# Altium schematic symbol library Supernova Resistors.SchLib: 277 symbols (part 3 of 3)
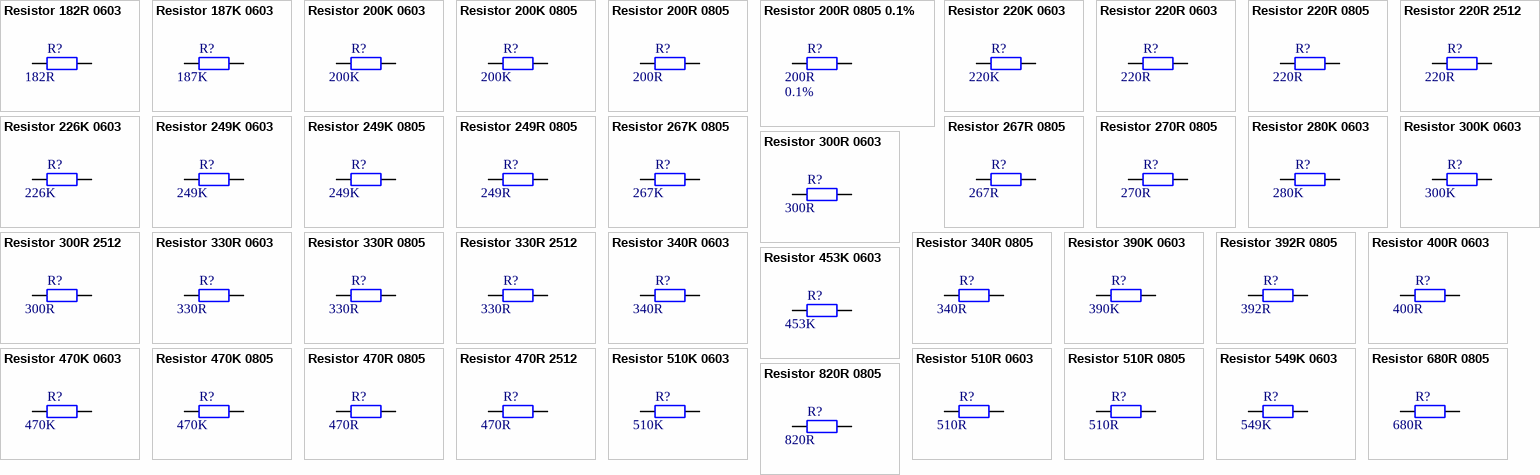
[diagram p9: symbols Resistor 182R 0603 to Resistor 820R 0805]

## Resistor 187K 0603
designator R?, comment 187K
Resistor 187K 0603 0.1W 1%; Revision: Altium ETH 11-03.2008; Value: 187K; Supplier 1: Digi-Key; Supplier 2: Digi-Key; Supplier Part Number 1: 311-187KHRCT-ND; Supplier Part Number 2: P187KHCT-ND
footprint 0603 RES (Chip Resistor, 2-Leads, Body 1.60x0.85mm, IPC Medium Density)
simulation model Resistor
pins: 1, 2
1 alternate drawing of the same symbol

## Resistor 200K 0603
designator R?, comment 200K
Resistor 200K 0603 0.1W 1%; Revision: Altium ETH 11-03.2008; Value: 200K; Supplier 1: Digi-Key; Supplier Part Number 1: P200KHCT-ND; Supplier 2: Digi-Key; Supplier Part Number 2: 311-200KHRCT-ND; Supplier 3: Digi-Key; Supplier Part Number 3: RMCF0603FT200KCT-ND
footprint 0603 RES (Chip Resistor, 2-Leads, Body 1.60x0.85mm, IPC Medium Density)
simulation model Resistor
pins: 1, 2
1 alternate drawing of the same symbol

## Resistor 200K 0805
designator R?, comment 200K
Resistor 200K 0805 0.125W 1%; Revision: Altium ETH 11-03.2008; Value: 200K; Supplier 1: Digi-Key; Supplier Part Number 1: P200KCCT-ND; Supplier 2: Digi-Key; Supplier Part Number 2: 311-200KCRCT-ND
footprint 0805 RES (Chip Resistor, 2-Leads, Body 2.05x1.25mm, IPC Medium Density)
simulation model Resistor
pins: 1, 2
1 alternate drawing of the same symbol

## Resistor 200R 0805
designator R?, comment 200R
Resistor 200R 0805 0.125W 1%; Revision: Altium ETH 11-03.2008; Value: 200R; Supplier 1: Digi-Key; Supplier Part Number 1: 311-200CRCT-ND; Supplier 2: Digi-Key; Supplier Part Number 2: P200CCT-ND
footprint 0805 RES (Chip Resistor, 2-Leads, Body 2.05x1.25mm, IPC Medium Density)
simulation model Resistor
pins: 1, 2
1 alternate drawing of the same symbol

## Resistor 200R 0805 0.1%
designator R?, comment 200R  Tolerance: 0.1%
Resistor 200R 0805 0.125W 0.1%; Revision: Altium ETH 11-03.2008; Value: 200R; Supplier 1: Digi-Key; Supplier 2: Digi-Key; Supplier Part Number 1: TNP200ABCT-ND; Supplier Part Number 2: A110476CT-ND
footprint 0805 RES (Chip Resistor, 2-Leads, Body 2.05x1.25mm, IPC Medium Density)
simulation model Resistor
pins: 1, 2
1 alternate drawing of the same symbol

## Resistor 220K 0603
designator R?, comment 220K
Resistor 220K 0603 0.1W 1%; Revision: Altium ETH 11-03.2008; Value: 220K; Supplier 1: Digi-Key; Supplier Part Number 1: 311-220KHRCT-ND; Supplier 2: Digi-Key; Supplier Part Number 2: P220KHCT-ND
footprint 0603 RES (Chip Resistor, 2-Leads, Body 1.60x0.85mm, IPC Medium Density)
simulation model Resistor
pins: 1, 2
1 alternate drawing of the same symbol

## Resistor 220R 0603
designator R?, comment 220R
Resistor 220R 0603 0.1W 1%; Revision: Altium ETH 11-03.2008; Value: 220R; Supplier 1: Digi-Key; Supplier Part Number 1: P220HCT-ND; Supplier 2: Digi-Key; Supplier Part Number 2: YAG3580CT-ND; Supplier 3: Digi-Key; Supplier Part Number 3: A129680CT-ND
footprint 0603 RES (Chip Resistor, 2-Leads, Body 1.60x0.85mm, IPC Medium Density)
simulation model Resistor
pins: 1, 2
1 alternate drawing of the same symbol

## Resistor 220R 0805
designator R?, comment 220R
Resistor 220R 0805 0.125W 1%; Revision: Altium ETH 11-03.2008; Value: 220R; Supplier 1: Digi-Key; Supplier Part Number 1: P220CCT-ND; Supplier 2: Digi-Key; Supplier Part Number 2: 311-220CRCT-ND; Supplier 3: Digi-Key; Supplier Part Number 3: A129741CT-ND; Supplier 4: Digi-Key; Supplier Part Number 4: RMCF0805FT220RCT-ND
footprint 0805 RES (Chip Resistor, 2-Leads, Body 2.05x1.25mm, IPC Medium Density)
simulation model Resistor
pins: 1, 2
1 alternate drawing of the same symbol

## Resistor 220R 2512
designator R?, comment 220R
Resistor 220R 2512 2W 1%; Revision: Altium ETH 11-03.2008; Value: 220R; Supplier 1: Digi-Key; Supplier 2: Digi-Key; Supplier Part Number 1: A130713CT-ND; Supplier Part Number 2: RHC2512FT220RCT-ND
footprint 2512 RES - TE
simulation model Resistor
pins: 1, 2
1 alternate drawing of the same symbol

## Resistor 226K 0603
designator R?, comment 226K
Resistor 226K 0603 0.1W 1%; Revision: Altium ETH 11-03.2008; Value: 226K; Supplier 1: Digi-Key; Supplier Part Number 1: P226KHCT-ND; Supplier 2: Digi-Key; Supplier Part Number 2: 2019-RK73H1JTTD2263FCT-ND
footprint 0603 RES (Chip Resistor, 2-Leads, Body 1.60x0.85mm, IPC Medium Density)
simulation model Resistor
pins: 1, 2
1 alternate drawing of the same symbol

## Resistor 249K 0603
designator R?, comment 249K
Resistor 249K 0603 0.1W 1%; Revision: Altium ETH 11-03.2008; Value: 249K; Supplier 1: Digi-Key; Supplier 2: Digi-Key; Supplier Part Number 1: 311-249KHRCT-ND; Supplier Part Number 2: P249KDBCT-ND
footprint 0603 RES (Chip Resistor, 2-Leads, Body 1.60x0.85mm, IPC Medium Density)
simulation model Resistor
pins: 1, 2
1 alternate drawing of the same symbol

## Resistor 249K 0805
designator R?, comment 249K
Resistor 249K 0805 0.125W 0.1%; Revision: Altium ETH 11-03.2008; Value: 249K; Supplier 1: Digi-Key; Supplier Part Number 1: P249KDACT-ND; Supplier 2: Digi-Key; Supplier Part Number 2: P20865CT-ND
footprint 0805 RES (Chip Resistor, 2-Leads, Body 2.05x1.25mm, IPC Medium Density)
simulation model Resistor
pins: 1, 2
1 alternate drawing of the same symbol

## Resistor 249R 0805
designator R?, comment 249R
Resistor 249R 0805 0.125W 0.1%; Revision: Altium ETH 11-03.2008; Value: 249R; Supplier 1: Digi-Key; Supplier 2: Digi-Key; Supplier Part Number 1: P249DACT-ND; Supplier Part Number 2: RG20P249BCT-ND
footprint 0805 RES (Chip Resistor, 2-Leads, Body 2.05x1.25mm, IPC Medium Density)
simulation model Resistor
pins: 1, 2
1 alternate drawing of the same symbol

## Resistor 267K 0805
designator R?, comment 267K
Resistor 267K 0805 0.125W 1%; Revision: Altium ETH 11-03.2008; Value: 267K; Supplier 1: Digi-Key; Supplier 2: Digi-Key; Supplier Part Number 1: 311-267KCRCT-ND; Supplier Part Number 2: P267KCCT-ND
footprint 0805 RES (Chip Resistor, 2-Leads, Body 2.05x1.25mm, IPC Medium Density)
simulation model Resistor
pins: 1, 2
1 alternate drawing of the same symbol

## Resistor 267R 0805
designator R?, comment 267R
Resistor 267R 0805 0.125W 1%; Revision: Altium ETH 11-03.2008; Value: 267R; Supplier 1: Digi-Key; Supplier 2: Digi-Key; Supplier Part Number 1: 311-267CRCT-ND; Supplier Part Number 2: P267DBCT-ND
footprint 0805 RES (Chip Resistor, 2-Leads, Body 2.05x1.25mm, IPC Medium Density)
simulation model Resistor
pins: 1, 2
1 alternate drawing of the same symbol

## Resistor 270R 0805
designator R?, comment 270R
Resistor 270R 0805 0.125W 1%; Revision: Altium ETH 11-03.2008; Value: 270R; Supplier 1: Digi-Key; Supplier Part Number 1: 311-270CRCT-ND; Supplier 2: Digi-Key; Supplier Part Number 2: P270CCT-ND
footprint 0805 RES (Chip Resistor, 2-Leads, Body 2.05x1.25mm, IPC Medium Density)
simulation model Resistor
pins: 1, 2
1 alternate drawing of the same symbol

## Resistor 280K 0603
designator R?, comment 280K
Resistor 280K 0603 0.1W 1%; Revision: Altium ETH 11-03.2008; Value: 280K; Supplier 1: Digi-Key; Supplier 2: Digi-Key; Supplier Part Number 1: P280KHCT-ND; Supplier Part Number 2: 311-280KHRCT-ND
footprint 0603 RES (Chip Resistor, 2-Leads, Body 1.60x0.85mm, IPC Medium Density)
simulation model Resistor
pins: 1, 2
1 alternate drawing of the same symbol

## Resistor 300K 0603
designator R?, comment 300K
Resistor 300K 0603 0.1W 1%; Revision: Altium ETH 11-03.2008; Value: 300K; Supplier 1: Digi-Key; Supplier 2: Digi-Key; Supplier Part Number 1: 311-300KHRCT-ND; Supplier Part Number 2: P300KHCT-ND
footprint 0603 RES (Chip Resistor, 2-Leads, Body 1.60x0.85mm, IPC Medium Density)
simulation model Resistor
pins: 1, 2
1 alternate drawing of the same symbol

## Resistor 300R 0603
designator R?, comment 300R
Resistor 300R 0603 0.1W 1%; Revision: Altium ETH 11-03.2008; Value: 300R; Supplier 1: Digi-Key; Supplier Part Number 1: 311-300HRCT-ND; Supplier 2: Digi-Key; Supplier Part Number 2: P300HCT-ND
footprint 0603 RES (Chip Resistor, 2-Leads, Body 1.60x0.85mm, IPC Medium Density)
simulation model Resistor
pins: 1, 2
1 alternate drawing of the same symbol

## Resistor 300R 2512
designator R?, comment 300R
Resistor 300R 2512 3W 1%; Revision: Altium ETH 11-03.2008; Value: 300R; Supplier 1: Digi-Key; Supplier Part Number 1: A121216CT-ND; Supplier 2: Digi-Key; Supplier Part Number 2: A116019CT-ND
footprint 2512 RES - TE
simulation model Resistor
pins: 1, 2
1 alternate drawing of the same symbol

## Resistor 330R 0603
designator R?, comment 330R
Resistor 330R 0603 0.1W 1%; Revision: Altium ETH 11-03.2008; Value: 330R; Supplier 1: Digi-Key; Supplier Part Number 1: P330HDKR-ND; Supplier 2: Digi-Key; Supplier Part Number 2: 311-330HRCT-ND
footprint 0603 RES (Chip Resistor, 2-Leads, Body 1.60x0.85mm, IPC Medium Density)
simulation model Resistor
pins: 1, 2
1 alternate drawing of the same symbol

## Resistor 330R 0805
designator R?, comment 330R
Resistor 330R 0805 0.125W 1%; Revision: Altium ETH 11-03.2008; Value: 330R; Supplier 1: Digi-Key; Supplier Part Number 1: P330CCT-ND; Supplier 2: Digi-Key; Supplier Part Number 2: 311-330CRCT-ND
footprint 0805 RES (Chip Resistor, 2-Leads, Body 2.05x1.25mm, IPC Medium Density)
simulation model Resistor
pins: 1, 2
1 alternate drawing of the same symbol

## Resistor 330R 2512
designator R?, comment 330R
Resistor 330R 2512 2W 1%; Revision: Altium ETH 11-03.2008; Value: 330R; Supplier 1: Digi-Key; Supplier 2: Digi-Key; Supplier Part Number 1: A116020CT-ND; Supplier Part Number 2: RHC2512FT330RCT-ND
footprint 2512 RES - TE
simulation model Resistor
pins: 1, 2
1 alternate drawing of the same symbol

## Resistor 340R 0603
designator R?, comment 340R
Resistor 340R 0603 0.1W 1%; Revision: Altium ETH 11-03.2008; Value: 340R; Supplier 1: Digi-Key; Supplier Part Number 1: P340HDKR-ND; Supplier 2: Digi-Key; Supplier Part Number 2: 311-340HRCT-ND
footprint 0603 RES (Chip Resistor, 2-Leads, Body 1.60x0.85mm, IPC Medium Density)
simulation model Resistor
pins: 1, 2
1 alternate drawing of the same symbol

## Resistor 340R 0805
designator R?, comment 340R
Resistor 340R 0805 0.125W 1%; Revision: Altium ETH 11-03.2008; Value: 340R; Supplier 1: Digi-Key; Supplier Part Number 1: P340CCT-ND; Supplier 2: Digi-Key; Supplier Part Number 2: 311-340CRCT-ND
footprint 0805 RES (Chip Resistor, 2-Leads, Body 2.05x1.25mm, IPC Medium Density)
simulation model Resistor
pins: 1, 2
1 alternate drawing of the same symbol

## Resistor 390K 0603
designator R?, comment 390K
Resistor 390K 0603 0.063W 0.1%; Revision: Altium ETH 11-03.2008; Value: 390K; Supplier 1: Digi-Key; Supplier Part Number 1: YAG4542CT-ND; Supplier 2: Digi-Key; Supplier Part Number 2: A119962CT-ND
footprint 0603 RES (Chip Resistor, 2-Leads, Body 1.60x0.85mm, IPC Medium Density)
simulation model Resistor
pins: 1, 2
1 alternate drawing of the same symbol

## Resistor 392R 0805
designator R?, comment 392R
Resistor 392R 0805 0.125W 0.1%; Revision: Altium ETH 11-03.2008; Value: 392R; Supplier 1: Digi-Key; Supplier 2: Digi-Key; Supplier Part Number 1: YAG4889CT-ND; Supplier Part Number 2: P20547CT-ND
footprint 0805 RES (Chip Resistor, 2-Leads, Body 2.05x1.25mm, IPC Medium Density)
simulation model Resistor
pins: 1, 2
1 alternate drawing of the same symbol

## Resistor 400R 0603
designator R?, comment 400R
Resistor 400R 0603 0.01W 0.1%; Revision: Altium ETH 11-03.2008; Value: 400R; Supplier 1: Digi-Key; Supplier Part Number 1: 764-M55342E12B400ARWSTR-ND
footprint 0603 RES (Chip Resistor, 2-Leads, Body 1.60x0.85mm, IPC Medium Density)
simulation model Resistor
pins: 1, 2
1 alternate drawing of the same symbol

## Resistor 453K 0603
designator R?, comment 453K
Resistor 453K 0603 0.1W 1%; Mass_g: 0.002; Revision: Altium ETH 11-03.2008; Value: 453K; Supplier 1: Digi-Key; Supplier 2: Digi-Key; Supplier Part Number 2: 311-453KHRCT-ND; Supplier Part Number 1: P453KHCT-ND
footprint 0603 RES (Chip Resistor, 2-Leads, Body 1.60x0.85mm, IPC Medium Density)
simulation model Resistor
pins: 1, 2
1 alternate drawing of the same symbol

## Resistor 470K 0603
designator R?, comment 470K
Resistor 470K 0603 0.1W 1%; Revision: Altium ETH 11-03.2008; Value: 470K; Supplier 1: Digi-Key; Supplier Part Number 1: P470KHCT-ND; Supplier 2: Digi-Key; Supplier Part Number 2: 311-470KHRCT-ND
footprint 0603 RES (Chip Resistor, 2-Leads, Body 1.60x0.85mm, IPC Medium Density)
simulation model Resistor
pins: 1, 2
1 alternate drawing of the same symbol

## Resistor 470K 0805
designator R?, comment 470K
Resistor 470K 0805 0.125W 0.1%; Revision: Altium ETH 11-03.2008; Value: 470K; Supplier 1: Digi-Key; Supplier Part Number 1: P470KDACT-ND; Supplier 2: Digi-Key; Supplier Part Number 2: 311-470KCRCT-ND
footprint 0805 RES (Chip Resistor, 2-Leads, Body 2.05x1.25mm, IPC Medium Density)
simulation model Resistor
pins: 1, 2
1 alternate drawing of the same symbol

## Resistor 470R 0805
designator R?, comment 470R
Resistor 470R 0805 0.125W 1%; Revision: Altium ETH 11-03.2008; Value: 470R; Supplier 1: Digi-Key; Supplier 2: Digi-Key; Supplier Part Number 1: P470CCT-ND; Supplier Part Number 2: 311-470CRCT-ND
footprint 0805 RES (Chip Resistor, 2-Leads, Body 2.05x1.25mm, IPC Medium Density)
simulation model Resistor
pins: 1, 2
1 alternate drawing of the same symbol

## Resistor 470R 2512
designator R?, comment 470R
Resistor 470R 2512 3W 5%; Revision: Altium ETH 11-03.2008; Value: 470R; Supplier 1: Digi-Key; Supplier Part Number 1: A121256CT-ND; Supplier 2: Digi-Key; Supplier Part Number 2: A121257CT-ND
footprint 2512 RES - TE
simulation model Resistor
pins: 1, 2
1 alternate drawing of the same symbol

## Resistor 510K 0603
designator R?, comment 510K
Resistor 510K 0805 0.1W 1%; Revision: Altium ETH 11-03.2008; Value: 510K; Supplier 1: Digi-Key; Supplier 2: Digi-Key; Supplier Part Number 1: 311-510KHRCT-ND; Supplier Part Number 2: P510KHCT-ND
footprint 0603 RES (Chip Resistor, 2-Leads, Body 1.60x0.85mm, IPC Medium Density)
simulation model Resistor
pins: 1, 2
1 alternate drawing of the same symbol

## Resistor 510R 0603
designator R?, comment 510R
Resistor 510R 0603 0.1W 1%; Revision: Altium ETH 11-03.2008; Value: 510R; Supplier 1: Digi-Key; Supplier Part Number 1: P510HDKR-ND; Supplier 2: Digi-Key; Supplier Part Number 2: 311-510HRCT-ND; Supplier 3: Digi-Key; Supplier Part Number 3: YAG3615CT-ND; Supplier 4: Digi-Key; Supplier Part Number 4: P510DBCT-ND
footprint 0603 RES (Chip Resistor, 2-Leads, Body 1.60x0.85mm, IPC Medium Density)
simulation model Resistor
pins: 1, 2
1 alternate drawing of the same symbol

## Resistor 510R 0805
designator R?, comment 510R
Resistor 510R 0805 0.125W 1%; Revision: Altium ETH 11-03.2008; Value: 510R; Supplier 1: Digi-Key; Supplier Part Number 1: P510CCT-ND; Supplier 2: Digi-Key; Supplier Part Number 2: P123855CT-ND
footprint 0805 RES (Chip Resistor, 2-Leads, Body 2.05x1.25mm, IPC Medium Density)
simulation model Resistor
pins: 1, 2
1 alternate drawing of the same symbol

## Resistor 549K 0603
designator R?, comment 549K
Resistor 549K 0603 0.1W 1%; Revision: Altium ETH 11-03.2008; Value: 549K; Supplier 1: Digi-Key; Supplier 2: Digi-Key; Supplier Part Number 1: P549KHCT-ND; Supplier Part Number 2: 311-549KHRCT-ND
footprint 0603 RES (Chip Resistor, 2-Leads, Body 1.60x0.85mm, IPC Medium Density)
simulation model Resistor
pins: 1, 2
1 alternate drawing of the same symbol

## Resistor 680R 0805
designator R?, comment 680R
Resistor 680R 0805 0.125W 1%; Revision: Altium ETH 11-03.2008; Value: 680R; Supplier 1: Digi-Key; Supplier Part Number 1: 311-680CRCT-ND; Supplier 2: Digi-Key; Supplier Part Number 2: P680CCT-ND
footprint 0805 RES (Chip Resistor, 2-Leads, Body 2.05x1.25mm, IPC Medium Density)
simulation model Resistor
pins: 1, 2
1 alternate drawing of the same symbol

## Resistor 820R 0805
designator R?, comment 820R
Resistor 820R 0805 0.125W 1%; Revision: Altium ETH 11-03.2008; Value: 820R; Supplier 1: Digi-Key; Supplier Part Number 1: 311-820CRCT-ND; Supplier 2: Digi-Key; Supplier Part Number 2: P820CCT-ND
footprint 0805 RES (Chip Resistor, 2-Leads, Body 2.05x1.25mm, IPC Medium Density)
simulation model Resistor
pins: 1, 2
1 alternate drawing of the same symbol

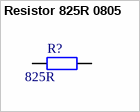
[diagram p7: symbol Resistor 825R 0805]

## Resistor 825R 0805
designator R?, comment 825R
Resistor 820R 0805 0.125W 0.1%; Revision: Altium ETH 11-03.2008; Value: 825R; Supplier 1: Digi-Key; Supplier Part Number 1: P825DACT-ND; Supplier 2: Digi-Key; Supplier Part Number 2: YAG4948CT-ND
footprint 0805 RES (Chip Resistor, 2-Leads, Body 2.05x1.25mm, IPC Medium Density)
simulation model Resistor
pins: 1, 2
1 alternate drawing of the same symbol